# Altium integrated library RM-065-502.IntLib: 1 symbol
Pins are listed as number, name and electrical type; pins without a type are passive.

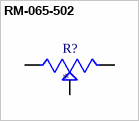
[diagram p0: symbol RM-065-502]

## RM-065-502
designator R?
MF: Runtron; MP: RM-065-502; SnapEDA_Link: https://www.snapeda.com/parts/RM-065-502/Runtron/view-part/?ref=snap; Package: None; Value: *; Check_prices: https://www.snapeda.com/parts/RM-065-502/Runtron/view-part/?ref=eda
footprint TRIM_RM-065-502
footprint Model Name (Model Description)
footprint Model Name (Model Description)
pins: 1, 2, 3